# EAGLE library part 74ABT126 (library SMORSE_Chao)
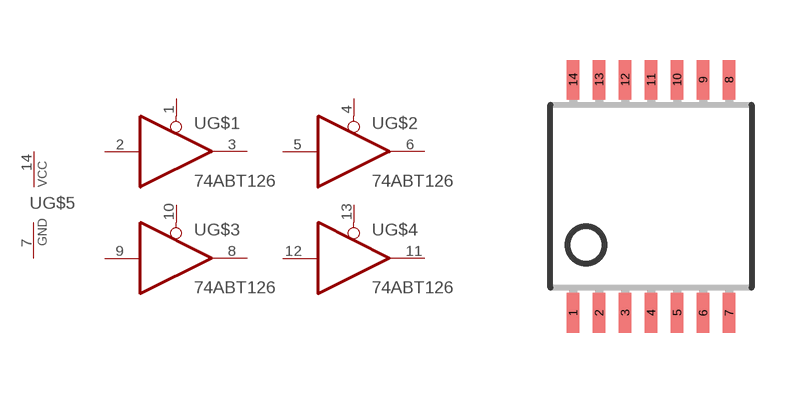
[diagram p0: symbol with the pads of 14TSSOP; footprint 14TSSOP]

Designator prefix -; gates G$1=74ABT126 G$2=74ABT126 G$3=74ABT126 G$4=74ABT126 G$5=PWRN

## 74ABT126  [14TSSOP]
1  G$1:OE  in
2  G$1:I  in
3  G$1:O  hiz
4  G$2:OE  in
5  G$2:I  in
6  G$2:O  hiz
7  G$5:GND  pwr
8  G$3:O  hiz
9  G$3:I  in
10  G$3:OE  in
11  G$4:O  hiz
12  G$4:I  in
13  G$4:OE  in
14  G$5:VCC  pwr

## Footprint 14TSSOP (pad centres in mm)
smd 0.305 x 0.991: 1 -1.95,-2.918; 2 -1.3,-2.918; 3 -0.65,-2.918; 4 0,-2.918; 5 0.65,-2.918; 6 1.3,-2.918; 7 1.95,-2.918; 8 1.95,2.918; 9 1.3,2.918; 10 0.65,2.918; 11 0,2.918; 12 -0.65,2.918; 13 -1.3,2.918; 14 -1.95,2.918